# EAGLE library part 74*4017 (library icmi-ics)
74*4017 Decade Counter/Divider The74*4017 is a high speed CMOS DECADE COUNTER/DIVIDER. Each of the decoded outputs is normally low and sequentially goes high on the lowto high transition of the clock input. Each output stays high for one clock period of the 10 clock period cycle. The CARRY output goes low to high afterOUTPUT 10 goes low, and can be used in conjunction with the CLOCK ENABLE to cascade several stages. The CLOCK ENABLE input disables counting when in the high state. A RESET input is also provided which when taken high sets all the decoded outputs low.
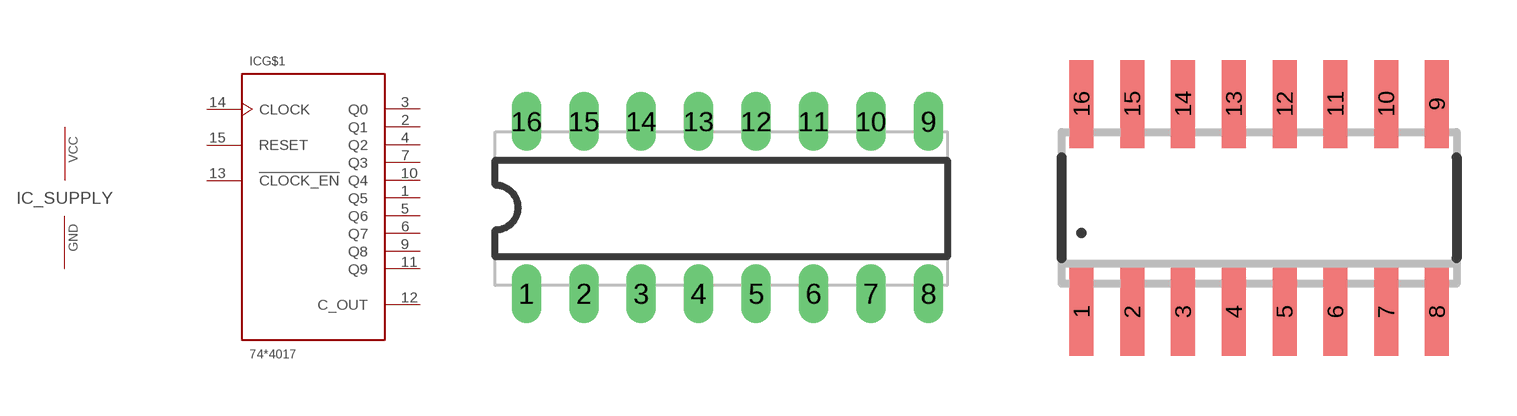
[diagram p0: symbol with the pads of DIP-16; footprints DIP-16, SO-16]

Designator prefix IC; gates G$1=74HC4017 _SUPPLY=1PWR_1GND

## 744017-DIP16  [DIP-16]
1  G$1:Q5  out
2  G$1:Q1  out
3  G$1:Q0  out
4  G$1:Q2  out
5  G$1:Q6  out
6  G$1:Q7  out
7  G$1:Q3  out
8  _SUPPLY:GND  pwr
9  G$1:Q8  out
10  G$1:Q4  out
11  G$1:Q9  out
12  G$1:C_OUT
13  G$1:!CLOCK_EN  in
14  G$1:CLOCK  in
15  G$1:RESET  in
16  _SUPPLY:VCC  pwr

## 744017-SO16  [SO-16]
Pads as for DIP-16

## Footprint DIP-16 (pad centres in mm)
DIP-16
drill 0.8 long: 1 -8.89,-3.81; 2 -6.35,-3.81; 3 -3.81,-3.81; 4 -1.27,-3.81; 5 1.27,-3.81; 6 3.81,-3.81; 7 6.35,-3.81; 8 8.89,-3.81; 9 8.89,3.81; 10 6.35,3.81; 11 3.81,3.81; 12 1.27,3.81; 13 -1.27,3.81; 14 -3.81,3.81; 15 -6.35,3.81; 16 -8.89,3.81

## Footprint SO-16 (pad centres in mm)
SMALL OUTLINE INTEGRATED CIRCUIT 16 PIN IC size 3.9mm x 9.9mm
smd 0.6 x 2.2: 1 -4.445,-2.6; 2 -3.175,-2.6; 3 -1.905,-2.6; 4 -0.635,-2.6; 5 0.635,-2.6; 6 1.905,-2.6; 7 3.175,-2.6; 8 4.445,-2.6; 9 4.445,2.6; 10 3.175,2.6; 11 1.905,2.6; 12 0.635,2.6; 13 -0.635,2.6; 14 -1.905,2.6; 15 -3.175,2.6; 16 -4.445,2.6